# Altium footprint library KC133A.PcbLib: 1 footprints
Each footprint in its own frame and in the unit in brackets; x right, y up, seen from the top. Pads: shape width x height; smd on the part's side, far side on the other; paste and mask are expansions set on the pad; w line width, h text height; cw(c..) or ccw(c..) is an arc to the next point about the centre after c.
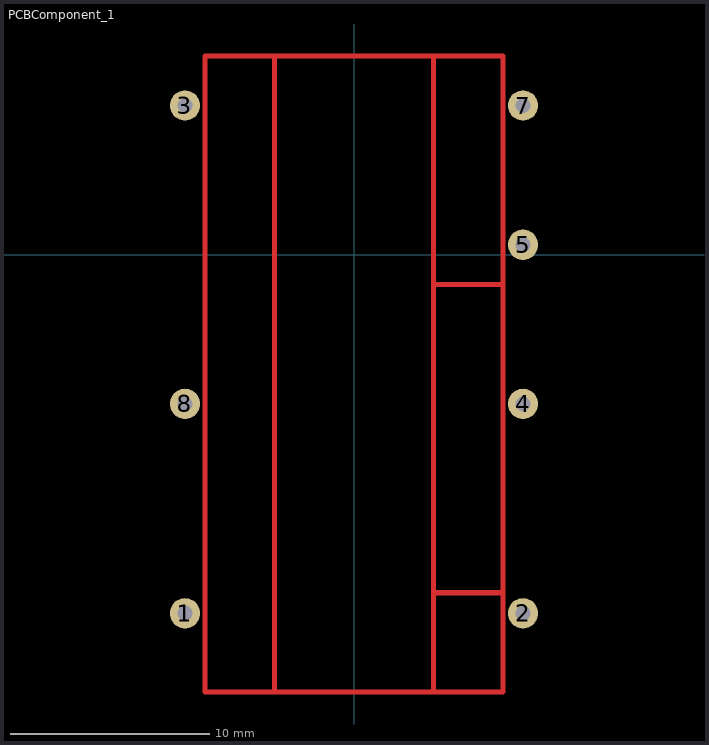
[diagram p0: the footprint, top view; thin cyan lines are the x and y axes]

## PCBComponent_1 [mil]
pads (7):
  round 60 hole 30: 1(-334.65,-710) 2(334.65,-710) 3(-334.65,295.28) 4(334.65,-295.28) 5(334.65,19.68) 7(334.65,295.28) 8(-334.65,-295.28)
Top Layer:
  lines w10: -157.48,-866.14 -157.48,393.7 ; 157.48,-866.14 157.48,393.7 ; 157.48,-669.29 295.28,-669.29 ; 157.48,-59.06 295.28,-59.06 ; -295.28,-866.14 -295.28,393.7 295.28,393.7 295.28,-866.14 -295.28,-866.14